# Altium schematic symbol library Eigen_schemas.SchLib: 18 symbols
Pins are listed as number, name and electrical type; pins without a type are passive.

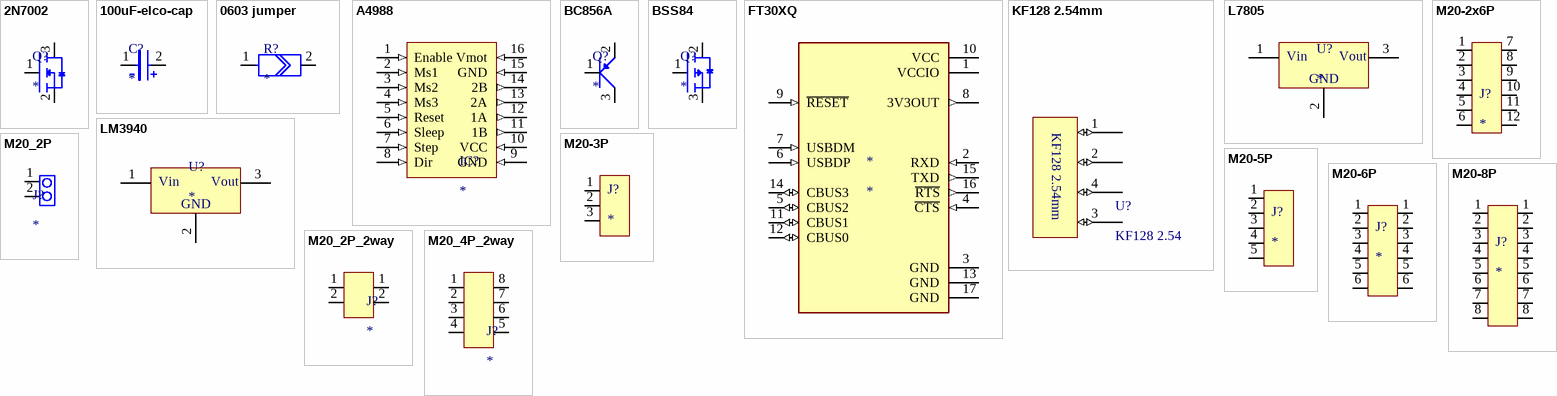
[diagram p0: symbols 2N7002 to M20_4P_2way]

## 2N7002
designator Q?
N-channel enhancement fet
footprint 2N7002
pins: 1 G (oc), 2 S (oc), 3 D

## 100uF-elco-cap
designator C?
Max 35V
footprint SMD-ELCO-CAP
pins: 1 4, 2 5

## 0603 jumper
designator R?
footprint 0603 jumper
pins: 1, 2

## A4988
designator IC?
stappenmotor driver
footprint A4988 (stepper driver)
pins: 1 Enable (in), 2 Ms1 (in), 3 Ms2 (in), 4 Ms3 (in), 5 Reset (in), 6 Sleep (in), 7 Step (in), 8 Dir (in), 9 GND (in), 10 VCC (in), 11 1B (out), 12 1A (out), 13 2A (out), 14 2B (out), 15 GND (in), 16 Vmot (in)

## BC856A
designator Q?
pins: 1, 2, 3

## BSS84
designator Q?
P channel fet| / Imax= 130mA
footprint SOT-23 (1) Gate / 2) Source / 3) Drain); pin to pad 2D>3 3S>2
pins: 1 G (oc), 2 D, 3 S (oc)

## FT30XQ
designator *
pins: 1 VCCIO (power), 2 RXD (in), 3 GND (power), 4 ~{CTS} (in), 5 CBUS2 (io), 6 USBDP (in), 7 USBDM (in), 8 3V3OUT (out), 9 ~{RESET} (in), 10 VCC (power), 11 CBUS1 (io), 12 CBUS0 (io), 13 GND (power), 14 CBUS3 (io), 15 TXD (out), 16 ~{RTS} (out), 17 GND (power)

## KF128 2.54mm
designator U?, comment KF128 2.54
KF128 2.54mm pitch connector
pins: 1 (io), 2 (io), 3 (io), 4 (io)

## L7805
designator U?
Linaire spannings omvormer
footprint DPAK
pins: 1, 2, 3
text: Vin; Vout; GND

## LM3940
designator U?
5V --> 3.3V
footprint SOT-233
pins: 1, 2, 3
text: Vin; Vout; GND

## M20-2x6P
designator J?
footprint M20-2x6PIN
pins: 1 9, 2 10, 3 11, 4 12, 5 13, 6 14, 7, 8, 9, 10, 11, 12

## M20-3P
designator J?
footprint M20-3PIN
pins: 1, 2, 3

## M20-5P
designator J?
footprint M20-5PIN
pins: 1, 2, 3, 4, 5

## M20-6P
designator J?
female header 6 pinnen
footprint M20-6pin
pins: 1, 1, 2, 2, 3, 3, 4, 4, 5, 5, 6, 6

## M20-8P
designator J?
female header 8 pinnen
footprint M20-8PIN
pins: 1, 1, 2, 2, 3, 3, 4, 4, 5, 5, 6, 6, 7, 7, 8, 8

## M20_2P
designator J?
M20-7820446
footprint M20-2pin
footprint M20-2PIN-2D
pins: 1, 2

## M20_2P_2way
designator J?
M20 bidirectional
footprint M20-2pin
pins: 1, 1, 2, 2

## M20_4P_2way
designator J?
M20-bidirectional
footprint M20-4pin
pins: 1 IO_1, 2 IO_1, 3 IO_1, 4 IO_1, 5 IO_2, 6 IO_2, 7 IO_2, 8 IO_2